# EAGLE library part B5870-SOCKET (library ungood)
Custom-made socket for Burroughs 5870 series Nixie tubes
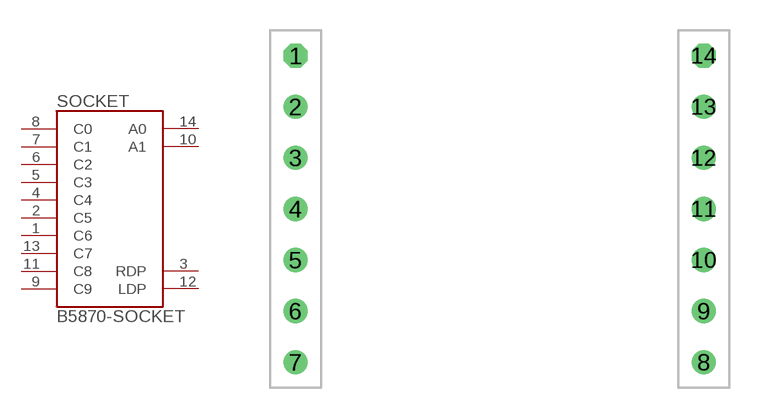
[diagram p1: symbol with the pads of B5870-SOCKET; footprint B5870-SOCKET]

Designator prefix SOCKET

## B5870-SOCKET  [B5870-SOCKET]
1  C6
2  C5
3  RDP
4  C4
5  C3
6  C2
7  C1
8  C0
9  C9
10  A1
11  C8
12  LDP
13  C7
14  A0

## Footprint B5870-SOCKET (pad centres in mm)
Custom-made socket for Burroughs 5870 series Nixie tubes
drill 0.7 octagon: 1 -10.16,7.62; 14 10.16,7.62
drill 0.7 round: 2 -10.16,5.08; 3 -10.16,2.54; 4 -10.16,0; 5 -10.16,-2.54; 6 -10.16,-5.08; 7 -10.16,-7.62; 8 10.16,-7.62; 9 10.16,-5.08; 10 10.16,-2.54; 11 10.16,0; 12 10.16,2.54; 13 10.16,5.08